# EAGLE library part NOTES-ARDUCORDER-MINI_CAPACITIVE-WHEEL-8 (library Touch pannel_V0.1)
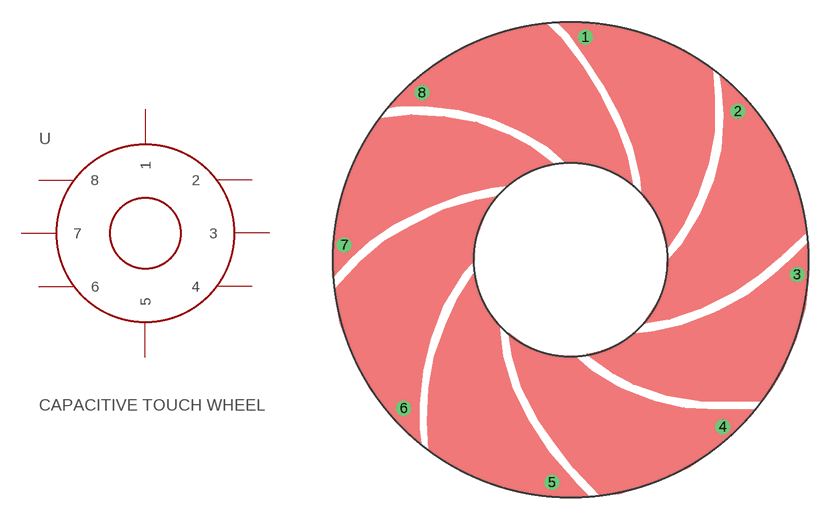
[diagram p3: symbol with the pads of NOTES-ARDUCORDER-MINI_CAPACITIVE-WHEEL-8; footprint NOTES-ARDUCORDER-MINI_CAPACITIVE-WHEEL-8]

Designator prefix -

## NOTES-ARDUCORDER-MINI_CAPACITIVE-WHEEL-8  [NOTES-ARDUCORDER-MINI_CAPACITIVE-WHEEL-8]
1  1
2  2
3  3
4  4
5  5
6  6
7  7
8  8

## Footprint NOTES-ARDUCORDER-MINI_CAPACITIVE-WHEEL-8 (pad centres in mm)
drill 0.5: 1 1,15; 2 11.25,10; 3 15.25,-1; 4 10.25,-11.25; 5 -1.25,-15; 6 -11.25,-10; 7 -15.25,1; 8 -10,11.25